# EAGLE library part TDA7498 (library BaseApp)
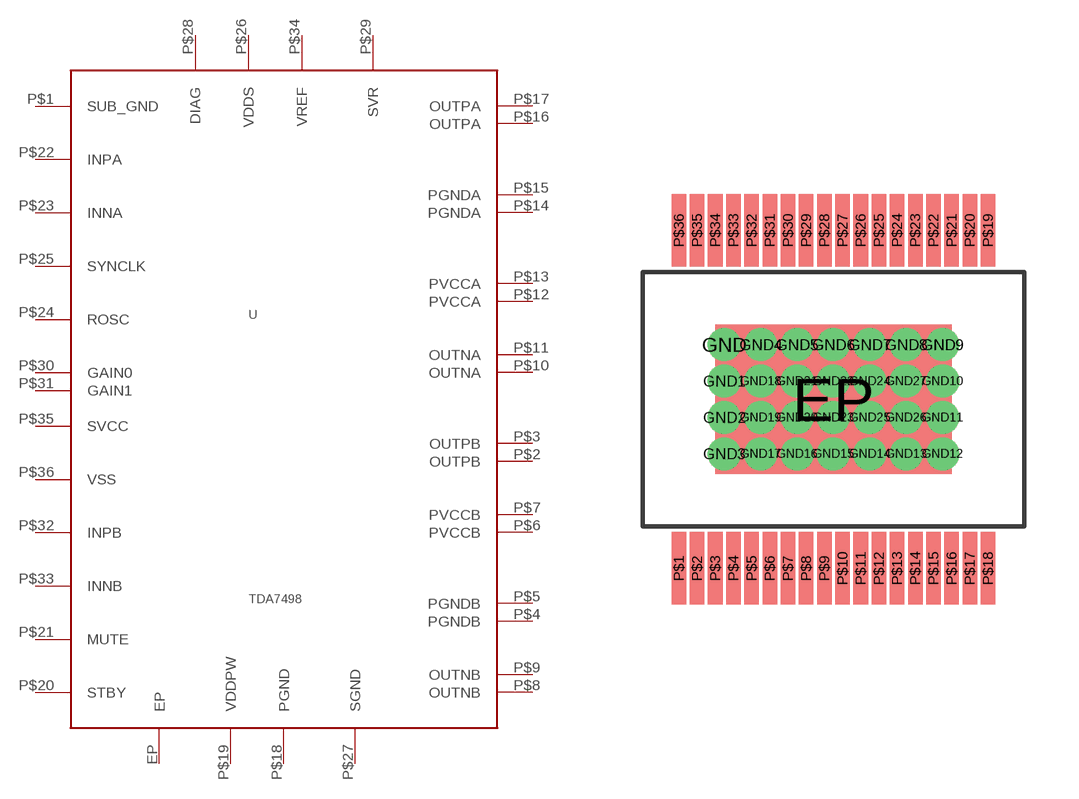
[diagram p117: symbol with the pads of POWERSS036; footprint POWERSS036]

Designator prefix -

## TDA7498  [POWERSS036]
EP  EP
P$1  SUB_GND
P$2  OUTPB
P$3  OUTPB
P$4  PGNDB
P$5  PGNDB
P$6  PVCCB
P$7  PVCCB
P$8  OUTNB
P$9  OUTNB
P$10  OUTNA
P$11  OUTNA
P$12  PVCCA
P$13  PVCCA
P$14  PGNDA
P$15  PGNDA
P$16  OUTPA
P$17  OUTPA
P$18  PGND
P$19  VDDPW
P$20  STBY
P$21  MUTE
P$22  INPA
P$23  INNA
P$24  ROSC
P$25  SYNCLK
P$26  VDDS
P$27  SGND
P$28  DIAG
P$29  SVR
P$30  GAIN0
P$31  GAIN1
P$32  INPB
P$33  INNB
P$34  VREF
P$35  SVCC
P$36  VSS

## Footprint POWERSS036 (pad centres in mm)
smd 6.5 x 4.1: EP 0,0
drill 0.4: GND -3,1.5; GND1 -3,0.5; GND2 -3,-0.5; GND3 -3,-1.5; GND4 -2,1.5; GND5 -1,1.5; GND6 0,1.5; GND7 1,1.5; GND8 2,1.5; GND9 3,1.5; GND10 3,0.5; GND11 3,-0.5; GND12 3,-1.5; GND13 2,-1.5; GND14 1,-1.5; GND15 0,-1.5; GND16 -1,-1.5; GND17 -2,-1.5; GND18 -2,0.5; GND19 -2,-0.5; GND20 -1,-0.5; GND21 -1,0.5; GND22 0,0.5; GND23 0,-0.5; GND24 1,0.5; GND25 1,-0.5; GND26 2,-0.5; GND27 2,0.5
smd 0.4 x 2: P$1 -4.25,-4.65; P$2 -3.75,-4.65; P$3 -3.25,-4.65; P$4 -2.75,-4.65; P$5 -2.25,-4.65; P$6 -1.75,-4.65; P$7 -1.25,-4.65; P$8 -0.75,-4.65; P$9 -0.25,-4.65; P$10 0.25,-4.65; P$11 0.75,-4.65; P$12 1.25,-4.65; P$13 1.75,-4.65; P$14 2.25,-4.65; P$15 2.75,-4.65; P$16 3.25,-4.65; P$17 3.75,-4.65; P$18 4.25,-4.65; P$19 4.25,4.65; P$20 3.75,4.65; P$21 3.25,4.65; P$22 2.75,4.65; P$23 2.25,4.65; P$24 1.75,4.65; P$25 1.25,4.65; P$26 0.75,4.65; P$27 0.25,4.65; P$28 -0.25,4.65; P$29 -0.75,4.65; P$30 -1.25,4.65; P$31 -1.75,4.65; P$32 -2.25,4.65; P$33 -2.75,4.65; P$34 -3.25,4.65; P$35 -3.75,4.65; P$36 -4.25,4.65